# Altium schematic symbol library ti82_lib.SchLib: 10 symbols
Pins are listed as number, name and electrical type; pins without a type are passive.

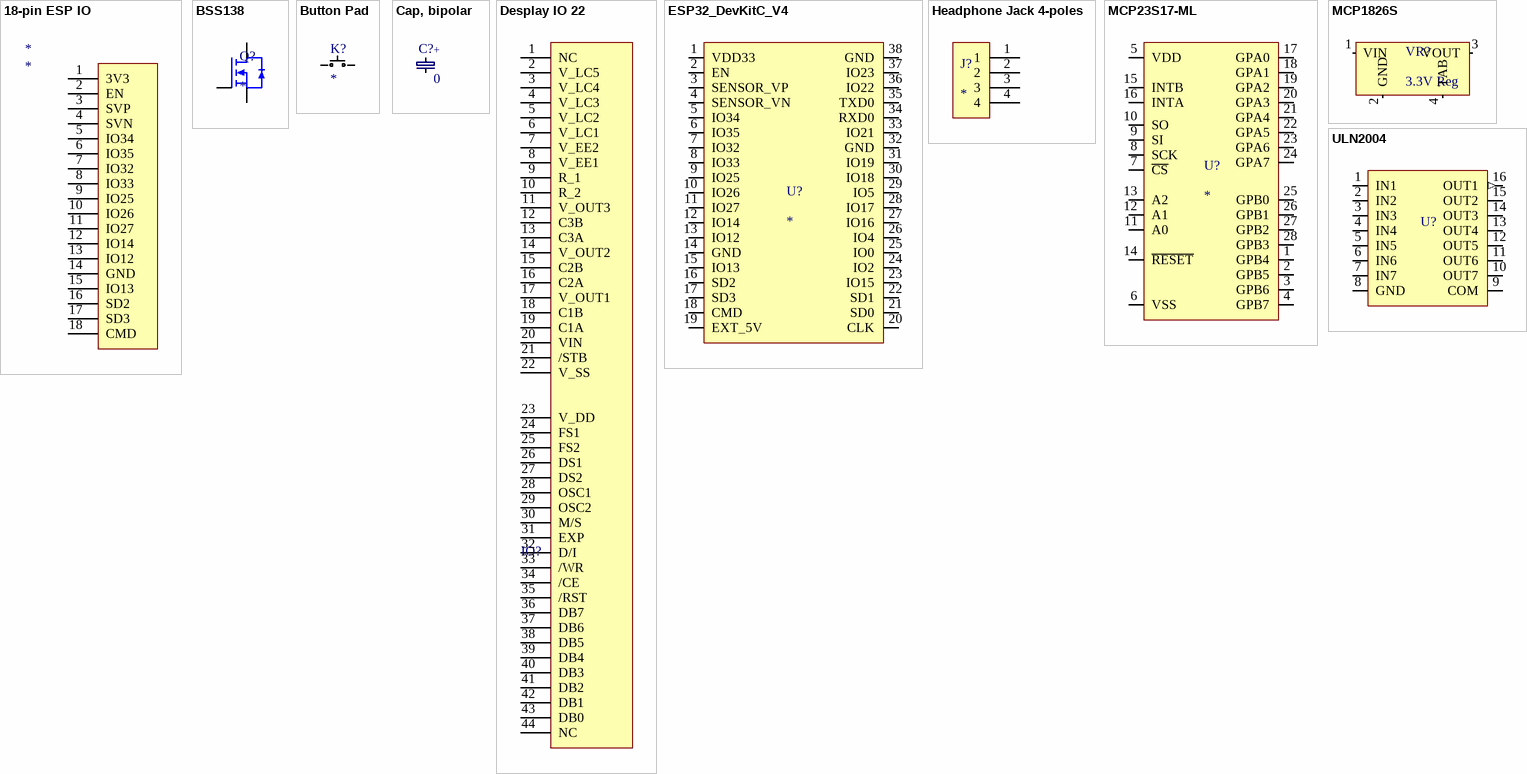
[diagram p0: symbols 18-pin ESP IO to ULN2004]

## 18-pin ESP IO
designator *
footprint 18 Pin ESP IO
pins: 1 3V3, 2 EN, 3 SVP, 4 SVN, 5 IO34, 6 IO35, 7 IO32, 8 IO33, 9 IO25, 10 IO26, 11 IO27, 12 IO14, 13 IO12, 14 GND, 15 IO13, 16 SD2, 17 SD3, 18 CMD

## BSS138
designator Q?
footprint SOT23
pins: 1 G, 2 S, 3 D

## Button Pad
designator K?
footprint BUTTON PAD 2
pins: 1, 2

## Cap, bipolar
designator C?  Parameter 1: 0  (hidden comment: *)
footprint CAP 1206 BIPOLAR
pins: 0, 1
text: +

## Desplay IO 22
designator IO?, comment Display IO*  (value not drawn)
Display Pins for TI-82 STATS
footprint Display IO 44
pins: 1 NC, 2 V_LC5, 3 V_LC4, 4 V_LC3, 5 V_LC2, 6 V_LC1, 7 V_EE2, 8 V_EE1, 9 R_1, 10 R_2, 11 V_OUT3, 12 C3B, 13 C3A, 14 V_OUT2, 15 C2B, 16 C2A, 17 V_OUT1, 18 C1B, 19 C1A, 20 VIN, 21 /STB, 22 V_SS, 23 V_DD, 24 FS1, 25 FS2, 26 DS1, 27 DS2, 28 OSC1, 29 OSC2, 30 M/S, 31 EXP, 32 D/I, 33 /WR, 34 /CE, 35 /RST, 36 DB7, 37 DB6, 38 DB5, 39 DB4, 40 DB3, 41 DB2, 42 DB1, 43 DB0, 44 NC

## ESP32_DevKitC_V4
designator U?
footprint ESP32_DevKitC_V4
pins: 1 VDD33, 2 EN, 3 SENSOR_VP, 4 SENSOR_VN, 5 IO34, 6 IO35, 7 IO32, 8 IO33, 9 IO25, 10 IO26, 11 IO27, 12 IO14, 13 IO12, 14 GND, 15 IO13, 16 SD2, 17 SD3, 18 CMD, 19 EXT_5V, 20 CLK, 21 SD0, 22 SD1, 23 IO15, 24 IO2, 25 IO0, 26 IO4, 27 IO16, 28 IO17, 29 IO5, 30 IO18, 31 IO19, 32 GND, 33 IO21, 34 RXD0, 35 TXD0, 36 IO22, 37 IO23, 38 GND

## Headphone Jack 4-poles
designator J?
footprint Headphone Jack 4-poles
pins: 1 "Sleeve", 2 "Tip", 3 "Ring 1", 4 "Ring 2"

## MCP23S17-ML
designator U?
footprint QFN28 0.65 Pitch
pins: 1 GPB4, 2 GPB5, 3 GPB6, 4 GPB7, 5 VDD, 6 VSS, 7 ~{CS}, 8 SCK, 9 SI, 10 SO, 11 A0, 12 A1, 13 A2, 14 ~{RESET}, 15 INTB, 16 INTA, 17 GPA0, 18 GPA1, 19 GPA2, 20 GPA3, 21 GPA4, 22 GPA5, 23 GPA6, 24 GPA7, 25 GPB0, 26 GPB1, 27 GPB2, 28 GPB3

## MCP1826S
designator VR?, comment 3.3V Reg
footprint SOT223
pins: 1 VIN, 2 GND, 3 VOUT, 4 TAB

## ULN2004
designator U?  (value not drawn)
Seven Darlington arrays
footprint DIP16 (Dual-In-Line Package, 2.54mm pitch)
pins: 1 IN1, 2 IN2, 3 IN3, 4 IN4, 5 IN5, 6 IN6, 7 IN7, 8 GND, 9 COM, 10 OUT7, 11 OUT6, 12 OUT5, 13 OUT4, 14 OUT3, 15 OUT2, 16 OUT1 (out)